# Altium schematic symbol library LGT8F328P_48PIN.SchLib: 1 symbol
Pins are listed as number, name and electrical type; pins without a type are passive.

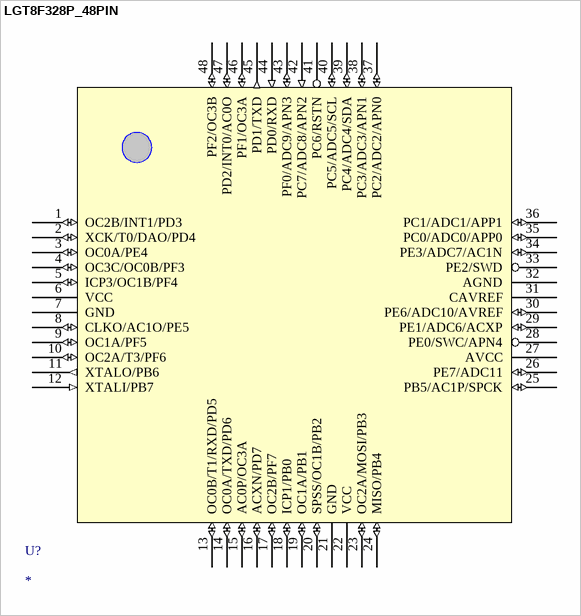
[diagram p0: symbol LGT8F328P_48PIN]

## LGT8F328P_48PIN
designator U?
footprint LC-LQFP-48_7x7x05P
pins: 1 OC2B/INT1/PD3 (io), 2 XCK/T0/DAO/PD4 (io), 3 OC0A/PE4 (io), 4 OC3C/OC0B/PF3 (io), 5 ICP3/OC1B/PF4 (io), 6 VCC (power), 7 GND (power), 8 CLKO/AC1O/PE5 (io), 9 OC1A/PF5 (io), 10 OC2A/T3/PF6 (io), 11 XTALO/PB6 (out), 12 XTALI/PB7 (in), 13 OC0B/T1/RXD/PD5 (io), 14 OC0A/TXD/PD6 (io), 15 AC0P/OC3A (io), 16 ACXN/PD7 (io), 17 OC2B/PF7 (io), 18 ICP1/PB0 (io), 19 OC1A/PB1 (io), 20 SPSS/OC1B/PB2 (io), 21 GND (power), 22 VCC (power), 23 OC2A/MOSI/PB3 (io), 24 MISO/PB4 (io), 25 PB5/AC1P/SPCK (io), 26 PE7/ADC11 (io), 27 AVCC (power), 28 PE0/SWC/APN4, 29 PE1/ADC6/ACXP (io), 30 PE6/ADC10/AVREF (io), 31 CAVREF, 32 AGND (power), 33 PE2/SWD, 34 PE3/ADC7/AC1N (io), 35 PC0/ADC0/APP0 (io), 36 PC1/ADC1/APP1 (io), 37 PC2/ADC2/APN0 (io), 38 PC3/ADC3/APN1 (io), 39 PC4/ADC4/SDA (io), 40 PC5/ADC5/SCL (io), 41 PC6/RSTN, 42 PC7/ADC8/APN2 (in), 43 PF0/ADC9/APN3 (io), 44 PD0/RXD (in), 45 PD1/TXD (out), 46 PF1/OC3A (io), 47 PD2/INT0/AC0O (io), 48 PF2/OC3B (io)